# Altium footprint library SIWG917M110LGTBA.PcbLib: 1 footprints
Each footprint in its own frame and in the unit in brackets; x right, y up, seen from the top. Pads: shape width x height; smd on the part's side, far side on the other; paste and mask are expansions set on the pad; w line width, h text height; cw(c..) or ccw(c..) is an arc to the next point about the centre after c.
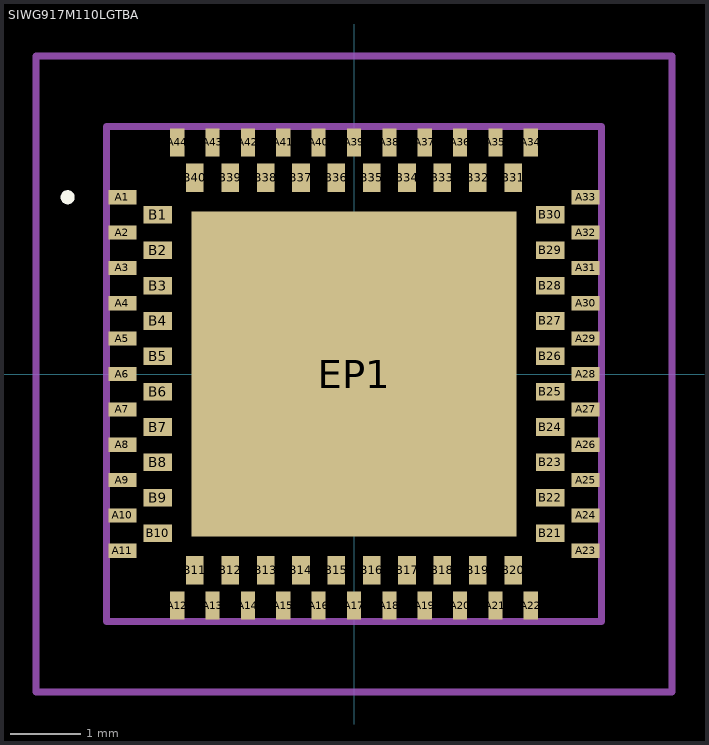
[diagram p0: the footprint, top view; thin cyan lines are the x and y axes]

## SIWG917M110LGTBA [mm]
pads (85):
  rect 0.4x0.2 smd: A1(-3.275,2.5) A2(-3.275,2) A3(-3.275,1.5) A4(-3.275,1) A5(-3.275,0.5) A6(-3.275,0) A7(-3.275,-0.5) A8(-3.275,-1) A9(-3.275,-1.5) A10(-3.275,-2) A11(-3.275,-2.5) A23(3.275,-2.5) A24(3.275,-2) A25(3.275,-1.5) A26(3.275,-1) A27(3.275,-0.5) A28(3.275,0) A29(3.275,0.5) A30(3.275,1) A31(3.275,1.5) A32(3.275,2) A33(3.275,2.5)
  rect 0.2x0.4 smd: A12(-2.5,-3.275) A13(-2,-3.275) A14(-1.5,-3.275) A15(-1,-3.275) A16(-0.5,-3.275) A17(0,-3.275) A18(0.5,-3.275) A19(1,-3.275) A20(1.5,-3.275) A21(2,-3.275) A22(2.5,-3.275) A34(2.5,3.275) A35(2,3.275) A36(1.5,3.275) A37(1,3.275) A38(0.5,3.275) A39(0,3.275) A40(-0.5,3.275) A41(-1,3.275) A42(-1.5,3.275) A43(-2,3.275) A44(-2.5,3.275)
  rect 0.4x0.25 smd: B1(-2.775,2.25) B2(-2.775,1.75) B3(-2.775,1.25) B4(-2.775,0.75) B5(-2.775,0.25) B6(-2.775,-0.25) B7(-2.775,-0.75) B8(-2.775,-1.25) B9(-2.775,-1.75) B10(-2.775,-2.25) B21(2.775,-2.25) B22(2.775,-1.75) B23(2.775,-1.25) B24(2.775,-0.75) B25(2.775,-0.25) B26(2.775,0.25) B27(2.775,0.75) B28(2.775,1.25) B29(2.775,1.75) B30(2.775,2.25)
  rect 0.25x0.4 smd: B11(-2.25,-2.775) B12(-1.75,-2.775) B13(-1.25,-2.775) B14(-0.75,-2.775) B15(-0.25,-2.775) B16(0.25,-2.775) B17(0.75,-2.775) B18(1.25,-2.775) B19(1.75,-2.775) B20(2.25,-2.775) B31(2.25,2.775) B32(1.75,2.775) B33(1.25,2.775) B34(0.75,2.775) B35(0.25,2.775) B36(-0.25,2.775) B37(-0.75,2.775) B38(-1.25,2.775) B39(-1.75,2.775) B40(-2.25,2.775)
  rect 4.6x4.6 smd: EP1(0,0)
Top Overlay:
  lines w0.1: -4.1,2.5 ccw(c-4.05,2.5) -4,2.5 ccw(c-4.05,2.5) -4.1,2.5
Mechanical 15:
  lines w0.1: -3.5,-3.5 3.5,-3.5 3.5,3.5 -3.5,3.5 -3.5,-3.5
Mechanical 20:
  lines w0.1: -4.5,-4.5 4.5,-4.5 4.5,4.5 -4.5,4.5 -4.5,-4.5
3D body "SIWG917M110LGTBA.stp": height 1.05, standoff 0, extent -3.5,-3.5 3.5,3.5